# Altium footprint library PCBLib.PcbLib: 3 footprints
Each footprint in its own frame and in the unit in brackets; x right, y up, seen from the top. Pads: shape width x height; smd on the part's side, far side on the other; paste and mask are expansions set on the pad; w line width, h text height; cw(c..) or ccw(c..) is an arc to the next point about the centre after c.
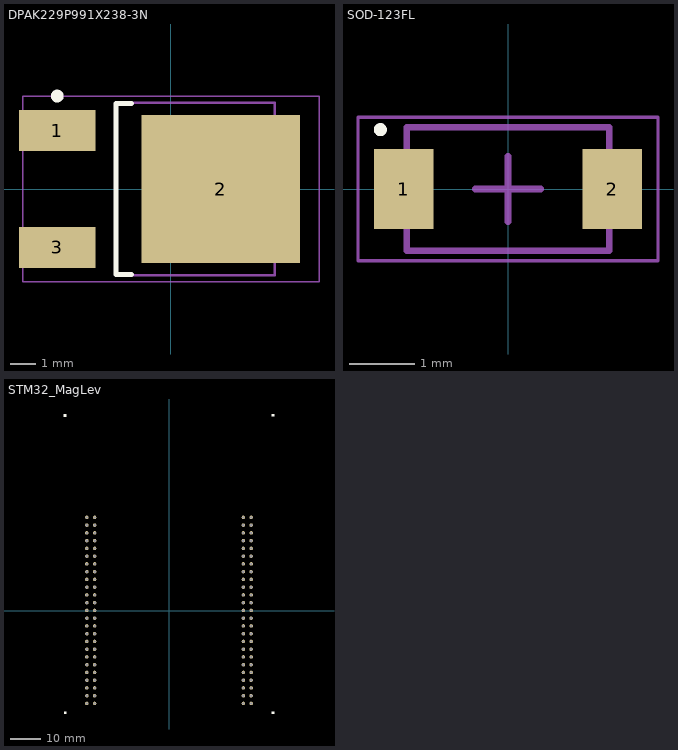
[diagram p0: the footprints below, top view; thin cyan lines are the x and y axes]

## DPAK229P991X238-3N [mm] "D-PAK, 3-Pads, Body 6,21x6,73mm (max), IPC Medium Density"
height 2.38
pads (3):
  rect 3x1.6 smd: 1(-4.45,2.29) 3(-4.45,-2.29)
  rect 6.2x5.8 smd: 2(1.95,0)
Top Overlay:
  circle w0.25: c-4.45,3.64 r0.125
  lines w0.2: -1.55,-3.35 -2.15,-3.35 -2.15,3.35 -1.55,3.35
Mechanical 13:
  lines w0.1: -2.15,-3.375 -2.15,3.375 4.07,3.375 4.07,-3.375 -2.15,-3.375
Mechanical 15:
  lines w0.05: -5.8,-3.625 -5.8,3.625 5.8,3.625 5.8,-3.625 -5.8,-3.625
  lines w0.1: -0.5,0 0.5,0 ; 0,-0.5 0,0.5
3D body "DPAK229P991X238-3N.step": height 2.89, standoff 0, extent -3.79,-3.375 6.115,3.375

## SOD-123FL [mil] "SODFL, 2-Leads, Body 1,65x3,70mm, IPC Medium Density"
height 53.15
pads (2):
  rect 36x48 smd: 1(-62.99,0) 2(62.99,0)
Top Overlay:
  circle w3.94: c-77.06,35.81 r1.97
Mechanical 13:
  lines w3.94: -61.02,-37.4 -61.02,37.4 61.02,37.4 61.02,-37.4 -61.02,-37.4
Mechanical 15:
  lines w1.97: -90.55,-43.31 -90.55,43.31 90.55,43.31 90.55,-43.31 -90.55,-43.31
  lines w3.94: -19.68,0 19.69,0 ; 0,-19.68 0,19.68
3D body "SOD-123FL.step": height 53.15, standoff 0, extent -72.83,-37.4 72.83,37.4

## STM32_MagLev [mil]
pads (100):
  round 45 hole 30: 1(-1059.57,1200.79) 2(-959.57,1200.79) 3(-1059.57,1100.79) 4(-959.57,1100.79) 5(-1059.57,1000.79) 6(-959.57,1000.79) 7(-1059.57,900.79) 8(-959.57,900.79) 9(-1059.57,800.79) 10(-959.57,800.79) 11(-1059.57,700.79) 12(-959.57,700.79) 13(-1059.57,600.79) 14(-959.57,600.79) 15(-1059.57,500.79) 16(-959.57,500.79) 17(-1059.57,400.79) 18(-959.57,400.79) 19(-1059.57,300.79) 20(-959.57,300.79) 21(-1059.57,200.79) 22(-959.57,200.79) 23(-1059.57,100.79) 24(-959.57,100.79) 25(-1059.57,0.79) 26(-959.57,0.79) 27(-1059.57,-99.21) 28(-959.57,-99.21) 29(-1059.57,-199.21) 30(-959.57,-199.21) 31(-1059.57,-299.21) 32(-959.57,-299.21) 33(-1059.57,-399.21) 34(-959.57,-399.21) 35(-1059.57,-499.21) 36(-959.57,-499.21) 37(-1059.57,-599.21) 38(-959.57,-599.21) 39(-1059.57,-699.21) 40(-959.57,-699.21) 41(-1059.57,-799.21) 42(-959.57,-799.21) 43(-1059.57,-899.21) 44(-959.57,-899.21) 45(-1059.57,-999.21) 46(-959.57,-999.21) 47(-1059.57,-1099.21) 48(-959.57,-1099.21) 49(-1059.57,-1199.21) 50(-959.57,-1199.21) 51(959.57,1200.79) 52(1059.57,1200.79) 53(959.57,1100.79) 54(1059.57,1100.79) 55(959.57,1000.79) 56(1059.57,1000.79) 57(959.57,900.79) 58(1059.57,900.79) 59(959.57,800.79) 60(1059.57,800.79) 61(959.57,700.79) 62(1059.57,700.79) 63(959.57,600.79) 64(1059.57,600.79) 65(959.57,500.79) 66(1059.57,500.79) 67(959.57,400.79) 68(1059.57,400.79) 69(959.57,300.79) 70(1059.57,300.79) 71(959.57,200.79) 72(1059.57,200.79) 73(959.57,100.79) 74(1059.57,100.79) 75(959.57,0.79) 76(1059.57,0.79) 77(959.57,-99.21) 78(1059.57,-99.21) 79(959.57,-199.21) 80(1059.57,-199.21) 81(959.57,-299.21) 82(1059.57,-299.21) 83(959.57,-399.21) 84(1059.57,-399.21) 85(959.57,-499.21) 86(1059.57,-499.21) 87(959.57,-599.21) 88(1059.57,-599.21) 89(959.57,-699.21) 90(1059.57,-699.21) 91(959.57,-799.21) 92(1059.57,-799.21) 93(959.57,-899.21) 94(1059.57,-899.21) 95(959.57,-999.21) 96(1059.57,-999.21) 97(959.57,-1099.21) 98(1059.57,-1099.21) 99(959.57,-1199.21) 100(1059.57,-1199.21)
Top Overlay:
  rectangle: -1355,-1335 -1325,-1305
  region: 1325,2535 1340,2535 1355,2535 1355,2520 1355,2505 1325,2505 1325,2520
  region: -1355,2532.5 -1340,2532.5 -1325,2532.5 -1325,2517.5 -1325,2502.5 -1355,2502.5 -1355,2517.5
  region: 1325,-1305 1340,-1305 1355,-1305 1355,-1320 1355,-1335 1325,-1335 1325,-1320